# Altium footprint library CYPCBLIB.PcbLib: 184 footprints (part 7 of 12)
Each footprint in its own frame and in the unit in brackets; x right, y up, seen from the top. Pads: shape width x height; smd on the part's side, far side on the other; paste and mask are expansions set on the pad; w line width, h text height; cw(c..) or ccw(c..) is an arc to the next point about the centre after c.
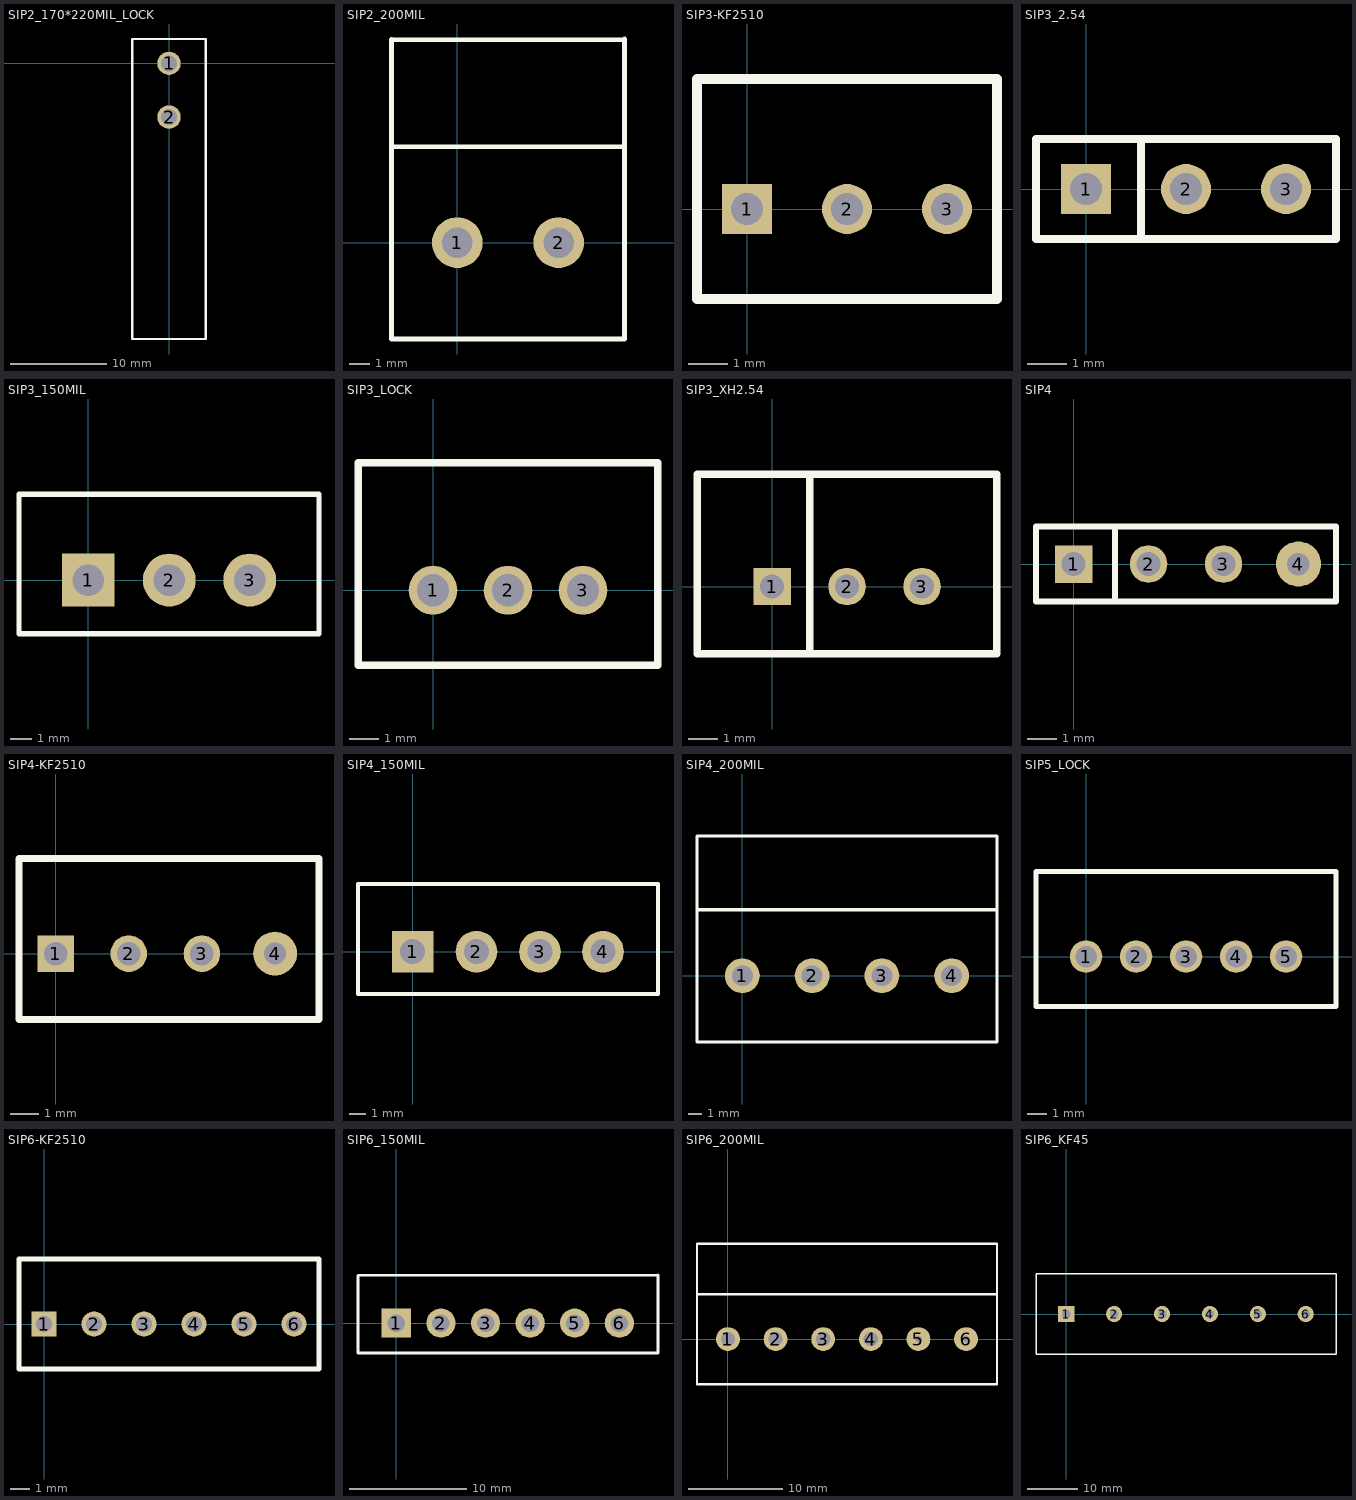
[diagram p6: the footprints below, top view; thin cyan lines are the x and y axes]

## SIP2_170*220MIL_LOCK [mil]
pads (2):
  round 96 hole 65: 1(0,0) 2(0,-220)
TopOverlay:
  lines w10: -150,-1130 -150,100 150,100 150,-1130 -150,-1130

## SIP2_200MIL [mil]
pads (2):
  round 100 hole 60: 1(0,0) 2(200,0)
TopOverlay:
  lines w10: 330,189 330,-190 -130,-190 -130,189 ; 330,400 -130,400.55 -130,189 ; 330,401.55 330,190 -130,189

## SIP3-KF2510 [mil]
pads (3):
  rect 50x50 hole 32: 1(0,0)
  round 50 hole 32: 2(100,0) 3(200,0)
TopOverlay:
  lines w10: -50,-90 -50,130 250,130 250,-90 50,-90 -50,-90

## SIP3_2.54 [mil]
pads (3):
  rect 50x50 hole 32: 1(0,0)
  round 50 hole 32: 2(100,0) 3(200,0)
TopOverlay:
  lines w8: 55,-50 55,50 ; -50,-50 -50,50 250,50 250,-50 -50,-50

## SIP3_150MIL [mm]
pads (3):
  rect 2.5x2.5 hole 1.5: 1(0,0)
  round 2.5 hole 1.5: 2(3.835,0) 3(7.645,0)
TopOverlay:
  lines w0.254: -3.277,-2.54 -3.277,4.064 10.922,4.064 10.922,-2.54 -3.277,-2.54

## SIP3_LOCK [mil]
pads (3):
  round 65 hole 43: 1(0,0) 2(100,0) 3(200,0)
TopOverlay:
  lines w10: -100,-100 -100,170 300,170 300,-100 -100,-100

## SIP3_XH2.54 [mil]
pads (3):
  rect 50x50 hole 32: 1(0,0)
  round 50 hole 32: 2(100,0) 3(200,0)
TopOverlay:
  lines w10: -100,0 -100,140 ; 50,-90 300,-90 300,150 50,150 ; 50,-90 50,-50 50,50 50,150 ; 50,-90 -50,-90 -100,-90 -100,150 -50,150 50,150

## SIP4 [mil]
pads (4):
  rect 50x50 hole 32: 1(0,0)
  round 50 hole 32: 2(100,0) 3(200,0)
  round 60 hole 30: 4(300,0)
TopOverlay:
  lines w8: 55,-50 55,50 ; -50,-50 350,-50 350,50 -50,50 -50,-50

## SIP4-KF2510 [mil]
pads (4):
  rect 50x50 hole 32: 1(0,0)
  round 50 hole 32: 2(100,0) 3(200,0)
  round 60 hole 30: 4(300,0)
TopOverlay:
  lines w10: -50,-90 50,-90 360,-90 360,130 -50,130 -50,-90

## SIP4_150MIL [mm]
pads (4):
  rect 2.5x2.5 hole 1.5: 1(0,0)
  round 2.5 hole 1.5: 2(3.835,0) 3(7.645,0) 4(11.43,0)
TopOverlay:
  lines w0.254: -3.277,-2.54 14.732,-2.54 14.732,4.064 -3.277,4.064 -3.277,-2.54

## SIP4_200MIL [mil]
pads (4):
  round 100 hole 60: 1(0,0) 2(200,0) 3(400,0) 4(600,0)
TopOverlay:
  lines w10: -130,189 -130,400.55 730,400.55 730,189 ; -130,189 -130,-190 730,-190 730,189 ; -130,189 730,189

## SIP5_LOCK [mil]
pads (5):
  round 65 hole 43: 1(0,0) 2(100,0) 3(200,0) 4(300,0) 5(400,0)
TopOverlay:
  lines w10: -100,-100 -100,170 500,170 500,-100 -100,-100

## SIP6-KF2510 [mil]
pads (6):
  rect 50x50 hole 32: 1(0,0)
  round 50 hole 32: 2(100,0) 3(200,0) 4(300,0) 5(400,0) 6(500,0)
TopOverlay:
  lines w10: -50,-90 50,-90 550,-90 550,130 -50,130 -50,-90

## SIP6_150MIL [mm]
pads (6):
  rect 2.5x2.5 hole 1.5: 1(0,0)
  round 2.5 hole 1.5: 2(3.81,0) 3(7.62,0) 4(11.43,0) 5(15.24,0) 6(19.05,0)
TopOverlay:
  lines w0.254: 22.327,-2.54 -3.277,-2.54 -3.277,4.064 22.352,4.089 ; 22.352,-2.54 22.352,4.064

## SIP6_200MIL [mil]
pads (6):
  round 100 hole 60: 1(0,0) 2(200,0) 3(400,0) 4(600,0)
  round 100 hole 30: 5(800,0) 6(1000,0)
TopOverlay:
  lines w10: -130,189 1130,189 ; -130,189 -130,-190 1130,-190 1130,189 ; -130,189 -130,400.55 1130,400.55 1130,189

## SIP6_KF45 [mm]
pads (6):
  rect 3.2x3.2 hole 1.7: 1(0,0)
  round 3.2 hole 1.7: 2(9.5,0) 3(19,0) 4(28.5,0) 5(38,0) 6(47.5,0)
TopOverlay:
  lines w0.254: -6,-8 53.5,-8 53.5,8 -6,8 -6,-8